# Altium footprint library SJ-2524-SMT-TR.PcbLib: 1 footprints
Each footprint in its own frame and in the unit in brackets; x right, y up, seen from the top. Pads: shape width x height; smd on the part's side, far side on the other; paste and mask are expansions set on the pad; w line width, h text height; cw(c..) or ccw(c..) is an arc to the next point about the centre after c.
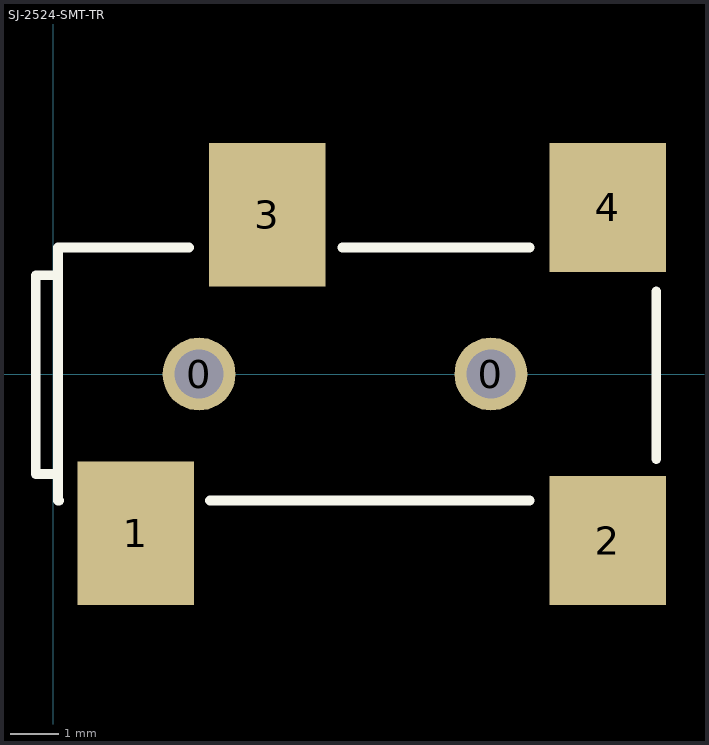
[diagram p0: the footprint, top view; thin cyan lines are the x and y axes]

## SJ-2524-SMT-TR [mm]
pads (6):
  round 1.5 hole 1: 0(3,0) 0(9,0)
  rect 2.4x2.95 smd: 1(1.7,-3.275) 3(4.4,3.275)
  rect 2.4x2.65 smd: 2(11.4,-3.425) 4(11.4,3.425)
Top Overlay:
  lines w0.2: 0.102,-2.057 -0.356,-2.057 -0.356,2.032 0.102,2.032 ; 0.127,-2.6 0.102,-2.6 0.102,2.6 2.794,2.6 ; 3.226,-2.6 9.8,-2.6 ; 5.944,2.6 9.8,2.6 ; 12.395,-1.753 12.395,1.702